# Altium footprint library AK2PAF1-156.2500.PcbLib: 1 footprints
Each footprint in its own frame and in the unit in brackets; x right, y up, seen from the top. Pads: shape width x height; smd on the part's side, far side on the other; paste and mask are expansions set on the pad; w line width, h text height; cw(c..) or ccw(c..) is an arc to the next point about the centre after c.
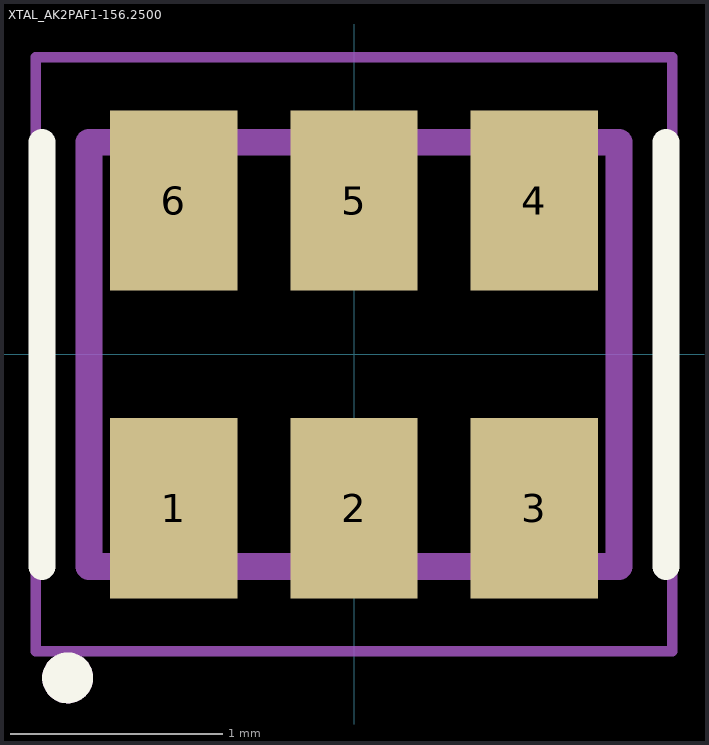
[diagram p0: the footprint, top view; thin cyan lines are the x and y axes]

## XTAL_AK2PAF1-156.2500 [mm]
pads (6):
  rect 0.6x0.85 smd: 1(-0.85,-0.725) 2(0,-0.725) 3(0.85,-0.725) 4(0.85,0.725) 5(0,0.725) 6(-0.85,0.725)
Top Overlay:
  circle w0.12: c-1.35,-1.525 r0.06
  lines w0.127: -1.47,-1 -1.47,1 ; 1.47,-1 1.47,1
Mechanical 13:
  circle w0.12: c-1.35,-1.525 r0.06
  lines w0.127: -1.25,-1 -1.25,1 1.25,1 1.25,-1 -1.25,-1
Mechanical 15:
  lines w0.05: -1.5,-1.4 -1.5,1.4 1.5,1.4 1.5,-1.4 -1.5,-1.4
3D body "step_temp.STEP": height 1.1, standoff 0, extent -1.25,-1 1.25,1